# Altium footprint library LCD_SCREEN.PcbLib: 2 footprints
Each footprint in its own frame and in the unit in brackets; x right, y up, seen from the top. Pads: shape width x height; smd on the part's side, far side on the other; paste and mask are expansions set on the pad; w line width, h text height; cw(c..) or ccw(c..) is an arc to the next point about the centre after c.
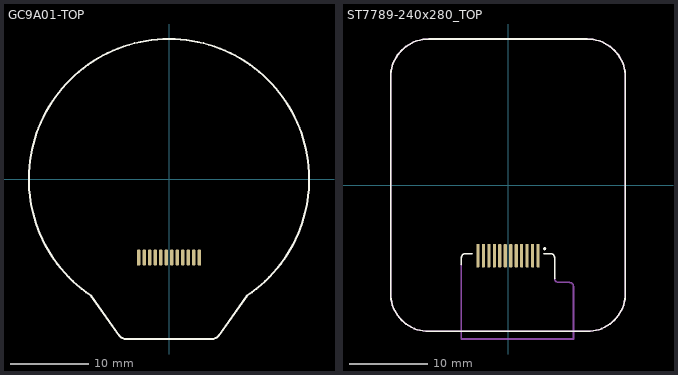
[diagram p0: the footprints below, top view; thin cyan lines are the x and y axes]

## GC9A01-TOP [mm]
pads (12):
  rrect50% 0.4x2.032 smd: 1(3.85,-9.951) 2(3.15,-9.951) 3(2.45,-9.951) 4(1.75,-9.951) 5(1.05,-9.951) 6(0.35,-9.951) 7(-0.35,-9.951) 8(-1.05,-9.951) 9(-1.75,-9.951) 10(-2.45,-9.951) 11(-3.15,-9.951) 12(-3.85,-9.951)
Top Overlay:
  lines w0.254: -9.911,-14.786 cw(c0,0) 9.911,-14.786 6.305,-19.87 cw(c5.473,-19.281) 5.473,-20.3 -5.473,-20.3 cw(c-5.473,-19.281) -6.305,-19.87 -9.911,-14.786
3D body "scr.step": height 4.55, standoff 3, extent -17.796,-20.3 17.796,17.8

## ST7789-240x280_TOP [mm]
pads (12):
  rrect50% 0.4x3 smd: 1(3.85,-9.017) 2(3.15,-9.017) 3(2.45,-9.017) 4(1.75,-9.017) 5(1.05,-9.017) 6(0.35,-9.017) 7(-0.35,-9.017) 8(-1.05,-9.017) 9(-1.75,-9.017) 10(-2.45,-9.017) 11(-3.15,-9.017) 12(-3.85,-9.017)
Top Overlay:
  circle w0.2: c4.699,-8.128 r0.1
  lines w0.2: -5.961,-10.152 -5.961,-9.263 cw(c-5.461,-9.263) -5.461,-8.763 -4.572,-8.763 ; 4.572,-8.763 5.461,-8.763 cw(c5.461,-9.263) 5.961,-9.263 5.961,-11.938 ; -15.035,-13.815 ccw(c-10.135,-13.815) -10.135,-18.715 10.135,-18.715 ccw(c10.135,-13.815) 15.035,-13.815 15.035,13.815 ccw(c10.135,13.815) 10.135,18.715 -10.135,18.715 ccw(c-10.135,13.815) -15.035,13.815 -15.035,-13.815
Top 3D Body:
  lines w0.2: -5.969,-19.685 8.382,-19.685 8.382,-12.954 ccw(c7.882,-12.954) 7.882,-12.454 ; -5.961,-19.685 -5.961,-10.152 ; 5.961,-11.938 ccw(c6.461,-11.938) 6.461,-12.438 7.866,-12.438 ; -15.035,-13.815 ccw(c-10.135,-13.815) -10.135,-18.715 10.135,-18.715 ccw(c10.135,-13.815) 15.035,-13.815 15.035,13.815 ccw(c10.135,13.815) 10.135,18.715 -10.135,18.715 ccw(c-10.135,13.815) -15.035,13.815 -15.035,-13.815
3D body "ST7789-1_69inch.STEP": height 4.36, standoff 0.04, extent -15.035,-19.731 15.035,18.715